# EAGLE library part SHPRD_CPLT_NRF52 (library shepherd)
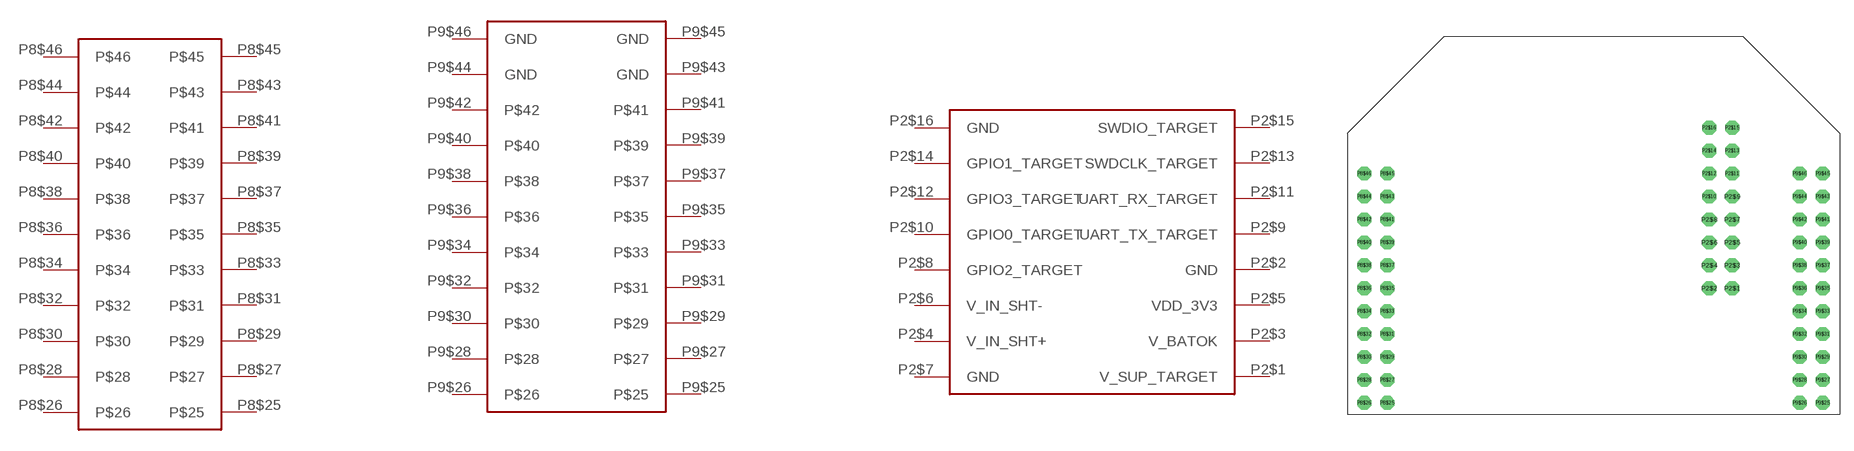
[diagram p28: symbol with the pads of SHPRD_CPLT_NRF52; footprint SHPRD_CPLT_NRF52]

Designator prefix -; gates G$1=SHPRD_CPLT_T_P2 G$2=SHPRD_CPLT_T_P8 G$3=SHPRD_CPLT_T_P9

## SHPRD_CPLT_NRF52  [SHPRD_CPLT_NRF52]
P2$1  G$1:V_SUP_TARGET  pwr
P2$2  G$1:GND
P2$3  G$1:V_BATOK  pwr
P2$4  G$1:V_IN_SHT+
P2$5  G$1:VDD_3V3  pwr
P2$6  G$1:V_IN_SHT-
P2$7  G$1:GND  pwr
P2$8  G$1:GPIO2_TARGET
P2$9  G$1:UART_TX_TARGET
P2$10  G$1:GPIO0_TARGET
P2$11  G$1:UART_RX_TARGET
P2$12  G$1:GPIO3_TARGET
P2$13  G$1:SWDCLK_TARGET
P2$14  G$1:GPIO1_TARGET
P2$15  G$1:SWDIO_TARGET
P2$16  G$1:GND  pwr
P8$25  G$2:P$25
P8$26  G$2:P$26
P8$27  G$2:P$27
P8$28  G$2:P$28  nc
P8$29  G$2:P$29
P8$30  G$2:P$30
P8$31  G$2:P$31
P8$32  G$2:P$32
P8$33  G$2:P$33
P8$34  G$2:P$34
P8$35  G$2:P$35
P8$36  G$2:P$36  nc
P8$37  G$2:P$37
P8$38  G$2:P$38
P8$39  G$2:P$39
P8$40  G$2:P$40
P8$41  G$2:P$41
P8$42  G$2:P$42
P8$43  G$2:P$43  nc
P8$44  G$2:P$44  nc
P8$45  G$2:P$45  nc
P8$46  G$2:P$46  nc
P9$25  G$3:P$25
P9$26  G$3:P$26  nc
P9$27  G$3:P$27  nc
P9$28  G$3:P$28  nc
P9$29  G$3:P$29  nc
P9$30  G$3:P$30  nc
P9$31  G$3:P$31  nc
P9$32  G$3:P$32
P9$33  G$3:P$33
P9$34  G$3:P$34
P9$35  G$3:P$35
P9$36  G$3:P$36
P9$37  G$3:P$37
P9$38  G$3:P$38
P9$39  G$3:P$39
P9$40  G$3:P$40
P9$41  G$3:P$41  nc
P9$42  G$3:P$42  nc
P9$43  G$3:GND  pwr
P9$44  G$3:GND  pwr
P9$45  G$3:GND  pwr
P9$46  G$3:GND  pwr

## Footprint SHPRD_CPLT_NRF52 (pad centres in mm)
drill 1.016 octagon: P2$1 15.367,-6.985; P2$2 12.827,-6.985; P2$3 15.367,-4.445; P2$4 12.827,-4.445; P2$5 15.367,-1.905; P2$6 12.827,-1.905; P2$7 15.367,0.635; P2$8 12.827,0.635; P2$9 15.367,3.175; P2$10 12.827,3.175; P2$11 15.367,5.715; P2$12 12.827,5.715; P2$13 15.367,8.255; P2$14 12.827,8.255; P2$15 15.367,10.795; P2$16 12.827,10.795; P8$25 -22.86,-19.685; P8$26 -25.4,-19.685; P8$27 -22.86,-17.145; P8$28 -25.4,-17.145; P8$29 -22.86,-14.605; P8$30 -25.4,-14.605; P8$31 -22.86,-12.065; P8$32 -25.4,-12.065; P8$33 -22.86,-9.525; P8$34 -25.4,-9.525; P8$35 -22.86,-6.985; P8$36 -25.4,-6.985; P8$37 -22.86,-4.445; P8$38 -25.4,-4.445; P8$39 -22.86,-1.905; P8$40 -25.4,-1.905; P8$41 -22.86,0.635; P8$42 -25.4,0.635; P8$43 -22.86,3.175; P8$44 -25.4,3.175; P8$45 -22.86,5.715; P8$46 -25.4,5.715; P9$25 25.4,-19.685; P9$26 22.86,-19.685; P9$27 25.4,-17.145; P9$28 22.86,-17.145; P9$29 25.4,-14.605; P9$30 22.86,-14.605; P9$31 25.4,-12.065; P9$32 22.86,-12.065; P9$33 25.4,-9.525; P9$34 22.86,-9.525; P9$35 25.4,-6.985; P9$36 22.86,-6.985; P9$37 25.4,-4.445; P9$38 22.86,-4.445; P9$39 25.4,-1.905; P9$40 22.86,-1.905; P9$41 25.4,0.635; P9$42 22.86,0.635; P9$43 25.4,3.175; P9$44 22.86,3.175; P9$45 25.4,5.715; P9$46 22.86,5.715